# Altium schematic symbol library Omron G6B-2114.Schlib: 1 symbol
Pins are listed as number, name and electrical type; pins without a type are passive.

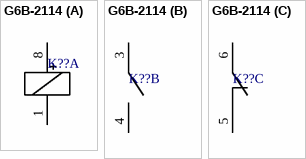
[diagram p0: symbol G6B-2114]

## G6B-2114
designator K??
General Purpose Relay, G6B Series, Power, Non Latching, Spst-No, Spst-Nc, 12 Vdc, 5 A; type: Relay; ComponentLink1Description: Datasheet link
footprint G6B-2114
part A pins: 1, 8
part B pins: 3, 4
part C pins: 5, 6